# Altium footprint library hi3516dv100.PcbLib: 78 footprints (part 1 of 5)
Each footprint in its own frame and in the unit in brackets; x right, y up, seen from the top. Pads: shape width x height; smd on the part's side, far side on the other; paste and mask are expansions set on the pad; w line width, h text height; cw(c..) or ccw(c..) is an arc to the next point about the centre after c.
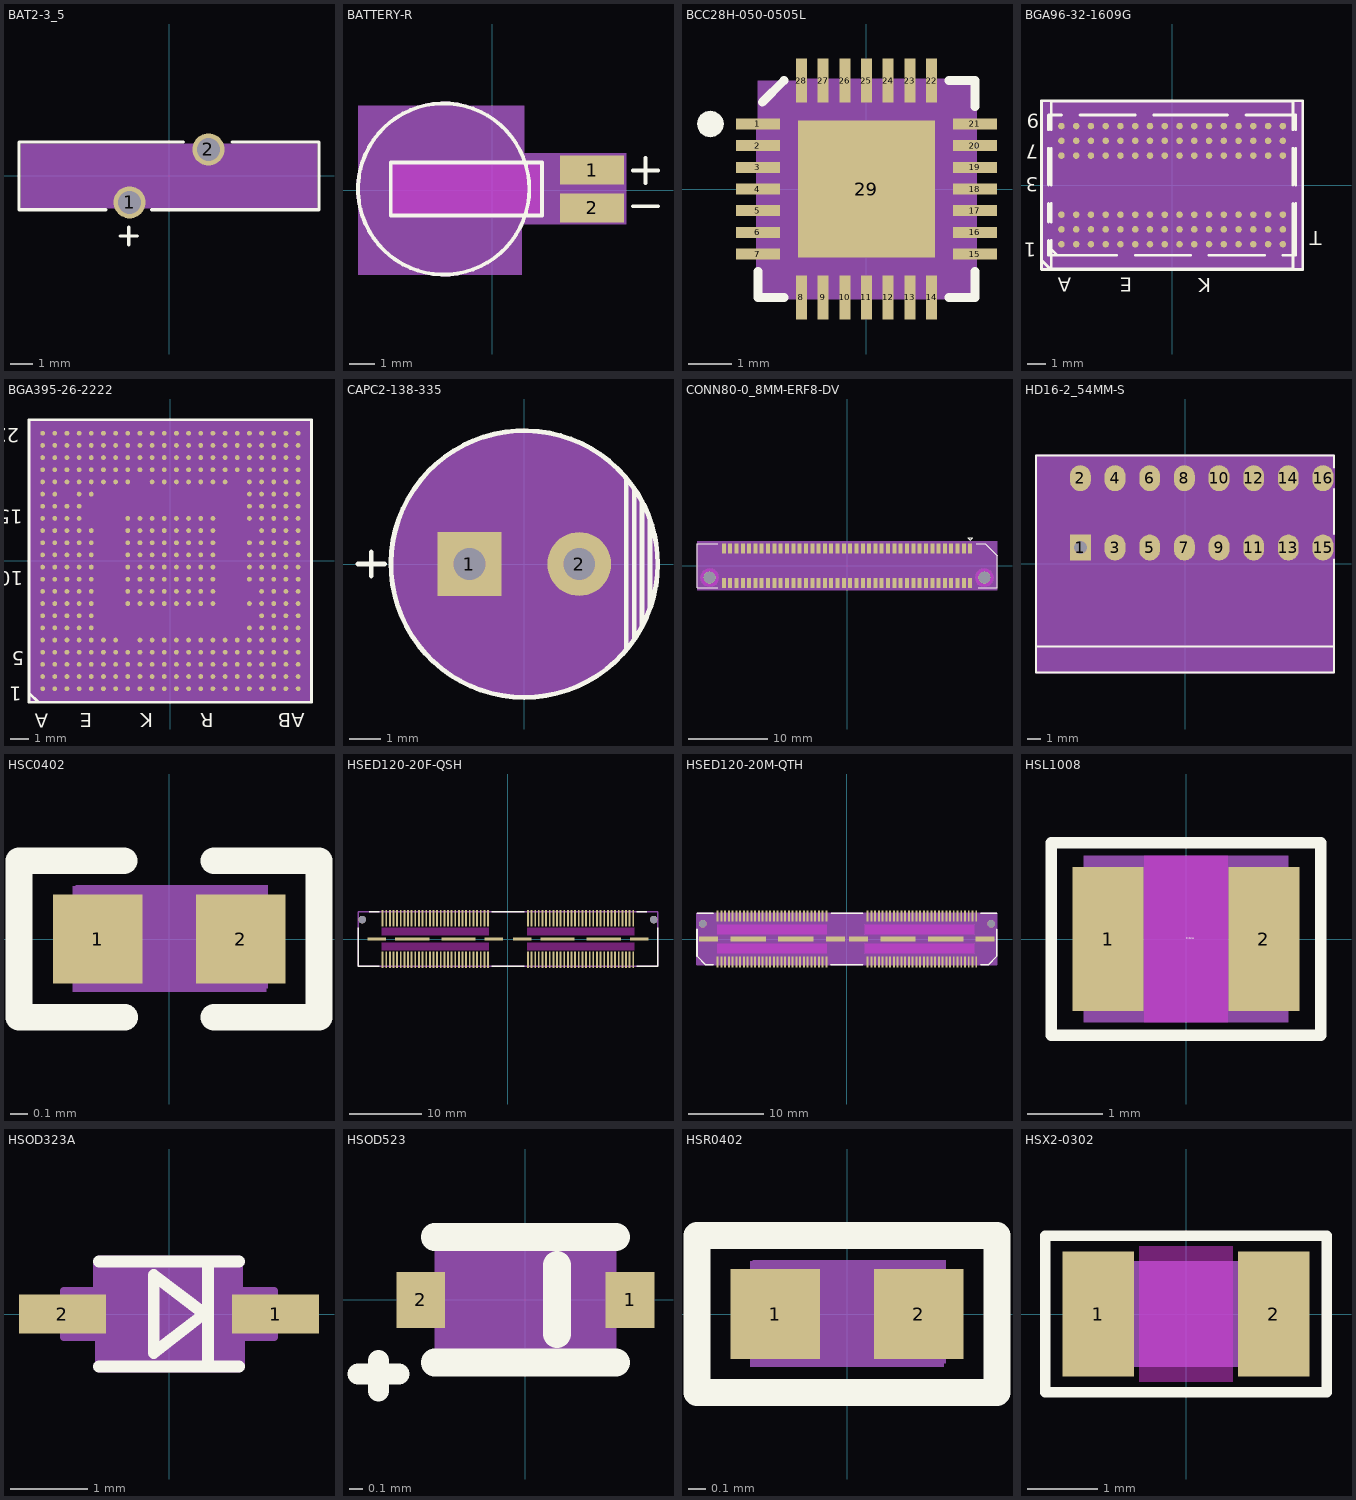
[diagram p0: the footprints below, top view; thin cyan lines are the x and y axes]

## BAT2-3_5 [mil] "BAT2-3_5"
pads (2):
  round 56 / inner round 60 / far side round 56 hole 40: 1(-68.9,-46.26) 2(68.9,46.26)
Top Overlay:
  lines w6: -110,-59.26 -262.02,-59.26 -262.02,59.26 25,59.26 ; -85,-105 -55,-105 ; -70,-120 -70,-90 ; -30,-59.26 262.02,-59.26 262.02,59.26 110,59.26
Mechanical 7:
  region: -259.02,-56.26 259.02,-56.26 259.02,56.26 -259.02,56.26
Mechanical 13:
  lines w1: -249.02,-46.26 -249.02,46.26 249.02,46.26 249.02,-46.26 -249.02,-46.26
3D body: height 150, standoff 0, extent -259.02,-56.26 259.02,56.26

## BATTERY-R [mil] "BATTERY-R"
pads (2):
  rect 100x45 smd: 1(156.5,31.5) 2(156.5,-27.56)
Top Layer keep-out:
  region: -158.46,-39.36 77.76,-39.36 77.76,43.31 -158.46,43.31
Top Overlay:
  circle w6: c-75.78,1.97 r133.85
  lines w6: 219.95,30.92 259.32,30.92 ; 220,-25 259.37,-25 ; 239.64,11.24 239.64,50.61 ; -158.46,-39.36 -158.46,43.31 77.76,43.31 77.76,-39.36 -158.46,-39.36
Mechanical 7:
  region: -209.64,131.89 50.2,131.89 50.2,58.01 209.65,58.01 209.65,47.31 209.65,45.28 209.65,-53.03 46.26,-53.03 46.26,-62.91 46.26,-63.38 46.26,-65.74 46.26,-131.89 -209.64,-131.89
Mechanical 16:
  circle w6: c-75.78,1.97 r133.85
  lines w6: -158.46,-39.36 -158.46,43.31 77.76,43.31 77.76,-39.36 -158.46,-39.36
3D body: height 150, standoff 0, extent -209.64,-131.89 209.65,131.89

## BCC28H-050-0505L [mil] "BCC28H-050-0505L"
pads (29):
  rect 40x10 smd: 1(-98.43,59.06) 2(-98.43,39.37) 3(-98.43,19.69) 4(-98.43,0) 5(-98.43,-19.69) 6(-98.43,-39.37) 7(-98.43,-59.06) 15(98.43,-59.06) 16(98.43,-39.37) 17(98.43,-19.69) 18(98.43,0) 19(98.43,19.69) 20(98.43,39.37) 21(98.43,59.06)
  rect 10x40 smd: 8(-59.06,-98.43) 9(-39.37,-98.43) 10(-19.69,-98.43) 11(0,-98.43) 12(19.69,-98.43) 13(39.37,-98.43) 14(59.06,-98.43) 22(59.06,98.43) 23(39.37,98.43) 24(19.69,98.43) 25(0,98.43) 26(-19.69,98.43) 27(-39.37,98.43) 28(-59.06,98.43)
  rect 124x124 smd: 29(0,0)
Top Overlay:
  dashed: -129.69,59.06 -130.61,63.67 -133.22,67.57 -137.12,70.18 -141.73,71.1 -146.34,70.18 -147.65,69.31 -150.24,67.57 -152.85,63.67 -153.77,59.06 -152.85,54.45 -150.24,50.55 -147.65,48.81 -146.34,47.94 -141.73,47.02 -137.12,47.94 -133.22,50.55 -130.61,54.45
  lines w7.87: -98.43,-74.8 -98.43,-98.43 -74.8,-98.43 ; -94.49,78.74 -74.8,98.43 ; 74.8,-98.43 98.43,-98.43 98.43,-74.8 ; 74.8,98.43 98.43,98.43 98.43,74.8
Mechanical 7:
  region: -98.43,98.43 -98.43,-98.43 98.43,-98.43 98.43,98.43
Mechanical 12:
  text "29" at -16,-50 h10
Mechanical 13:
  lines w3.94: -98.43,-98.43 -98.43,59.06 -59.06,98.43 98.43,98.43 98.43,-98.43 -98.43,-98.43
3D body: height 150, standoff 0, extent -98.43,-98.43 98.43,98.43

## BGA96-32-1609G [mil] "BGA96-32-1609G"
pads (96):
  round 14 smd: A1(-236.22,-125.98) A2(-236.22,-94.49) A3(-236.22,-62.99) A7(-236.22,62.99) A8(-236.22,94.49) A9(-236.22,125.98) B1(-204.72,-125.98) B2(-204.72,-94.49) B3(-204.72,-62.99) B7(-204.72,62.99) B8(-204.72,94.49) B9(-204.72,125.98) C1(-173.23,-125.98) C2(-173.23,-94.49) C3(-173.23,-62.99) C7(-173.23,62.99) C8(-173.23,94.49) C9(-173.23,125.98) D1(-141.73,-125.98) D2(-141.73,-94.49) D3(-141.73,-62.99) D7(-141.73,62.99) D8(-141.73,94.49) D9(-141.73,125.98) E1(-110.24,-125.98) E2(-110.24,-94.49) E3(-110.24,-62.99) E7(-110.24,62.99) E8(-110.24,94.49) E9(-110.24,125.98) F1(-78.74,-125.98) F2(-78.74,-94.49) F3(-78.74,-62.99) F7(-78.74,62.99) F8(-78.74,94.49) F9(-78.74,125.98) G1(-47.24,-125.98) G2(-47.24,-94.49) G3(-47.24,-62.99) G7(-47.24,62.99) G8(-47.24,94.49) G9(-47.24,125.98) H1(-15.75,-125.98) H2(-15.75,-94.49) H3(-15.75,-62.99) H7(-15.75,62.99) H8(-15.75,94.49) H9(-15.75,125.98) J1(15.75,-125.98) J2(15.75,-94.49) J3(15.75,-62.99) J7(15.75,62.99) J8(15.75,94.49) J9(15.75,125.98) K1(47.24,-125.98) K2(47.24,-94.49) K3(47.24,-62.99) K7(47.24,62.99) K8(47.24,94.49) K9(47.24,125.98) L1(78.74,-125.98) L2(78.74,-94.49) L3(78.74,-62.99) L7(78.74,62.99) L8(78.74,94.49) L9(78.74,125.98) M1(110.24,-125.98) M2(110.24,-94.49) M3(110.24,-62.99) M7(110.24,62.99) M8(110.24,94.49) M9(110.24,125.98) N1(141.73,-125.98) N2(141.73,-94.49) N3(141.73,-62.99) N7(141.73,62.99) N8(141.73,94.49) N9(141.73,125.98) P1(173.23,-125.98) P2(173.23,-94.49) P3(173.23,-62.99) P7(173.23,62.99) P8(173.23,94.49) P9(173.23,125.98) R1(204.72,-125.98) R2(204.72,-94.49) R3(204.72,-62.99) R7(204.72,62.99) R8(204.72,94.49) R9(204.72,125.98) T1(236.22,-125.98) T2(236.22,-94.49) T3(236.22,-62.99) T7(236.22,62.99) T8(236.22,94.49) T9(236.22,125.98)
Top Overlay:
  lines w6: -278.54,-160.43 -258.86,-180.12 ; -263.78,-118.11 -263.78,-149.61 -118.11,-149.61 ; -263.78,-78.74 -263.78,-39.37 ; -263.78,0 -263.78,78.74 ; -263.78,118.11 -263.78,149.61 -236.22,149.61 ; -263.27,-132.07 -246.94,-148.4 ; -257.87,-118.11 -257.87,-179.13 257.87,-179.13 257.87,-39.37 ; -257.87,-78.74 -257.87,-39.37 ; -257.87,0 -257.87,78.74 ; -257.87,118.11 -257.87,179.13 257.87,179.13 257.87,118.11 ; -196.85,149.61 -78.74,149.61 ; -78.74,-149.61 39.37,-149.61 ; -39.37,149.61 118.11,149.61 ; 78.74,-149.61 196.85,-149.61 ; 157.48,149.61 263.78,149.61 263.78,118.11 ; 236.22,-149.61 263.78,-149.61 263.78,-39.37 ; 257.87,0 257.87,78.74 ; 263.78,0 263.78,78.74 ; -278.54,-180.12 278.54,-180.12 278.54,180.12 -278.54,180.12 -278.54,-180.12
  text "9" at -283.52,152.4 h30
  text "7" at -285.84,85.72 h30
  text "3" at -285.42,17 h30
  text "1" at -290.42,-123 h30
  text "T" at 319.58,-98 h30
  text "K" at 83.58,-199 h30
  text "E" at -85.42,-198 h30
  text "A" at -215.42,-198 h30
Mechanical 8:
  region: 278.54,180.12 278.54,-180.12 -278.54,-180.12 -278.54,180.12
Mechanical 255:
  lines w3: -25,0 25,0 ; -25,0 25,0 ; -25,0 25,0 ; 0,-25 0,25 ; 0,-25 0,25 ; 0,-25 0,25
3D body: height 150, standoff 0, extent -278.54,-180.12 278.54,180.12

## BGA395-26-2222 [mil] "BGA395-26-2222"
pads (395):
  round 10 smd: A1(-268.7,-268.7) A2(-268.7,-243.11) A3(-268.7,-217.52) A4(-268.7,-191.93) A5(-268.7,-166.34) A6(-268.7,-140.75) A7(-268.7,-115.16) A8(-268.7,-89.57) A9(-268.7,-63.98) A10(-268.7,-38.39) A11(-268.7,-12.8) A12(-268.7,12.8) A13(-268.7,38.39) A14(-268.7,63.98) A15(-268.7,89.57) A16(-268.7,115.16) A17(-268.7,140.75) A18(-268.7,166.34) A19(-268.7,191.93) A20(-268.7,217.52) A21(-268.7,243.11) A22(-268.7,268.7) AA1(243.11,-268.7) AA2(243.11,-243.11) AA3(243.11,-217.52) AA4(243.11,-191.93) AA5(243.11,-166.34) AA6(243.11,-140.75) AA7(243.11,-115.16) AA8(243.11,-89.57) AA9(243.11,-63.98) AA10(243.11,-38.39) AA11(243.11,-12.8) AA12(243.11,12.8) AA13(243.11,38.39) AA14(243.11,63.98) AA15(243.11,89.57) AA16(243.11,115.16) AA17(243.11,140.75) AA18(243.11,166.34) AA19(243.11,191.93) AA20(243.11,217.52) AA21(243.11,243.11) AA22(243.11,268.7) AB1(268.7,-268.7) AB2(268.7,-243.11) AB3(268.7,-217.52) AB4(268.7,-191.93) AB5(268.7,-166.34) AB6(268.7,-140.75) AB7(268.7,-115.16) AB8(268.7,-89.57) AB9(268.7,-63.98) AB10(268.7,-38.39) AB11(268.7,-12.8) AB12(268.7,12.8) AB13(268.7,38.39) AB14(268.7,63.98) AB15(268.7,89.57) AB16(268.7,115.16) AB17(268.7,140.75) AB18(268.7,166.34) AB19(268.7,191.93) AB20(268.7,217.52) AB21(268.7,243.11) AB22(268.7,268.7) B1(-243.11,-268.7) B2(-243.11,-243.11) B3(-243.11,-217.52) B4(-243.11,-191.93) B5(-243.11,-166.34) B6(-243.11,-140.75) B7(-243.11,-115.16) B8(-243.11,-89.57) B9(-243.11,-63.98) B10(-243.11,-38.39) B11(-243.11,-12.8) B12(-243.11,12.8) B13(-243.11,38.39) B14(-243.11,63.98) B15(-243.11,89.57) B16(-243.11,115.16) B17(-243.11,140.75) B18(-243.11,166.34) B19(-243.11,191.93) B20(-243.11,217.52) B21(-243.11,243.11) B22(-243.11,268.7) C1(-217.52,-268.7) C2(-217.52,-243.11) C3(-217.52,-217.52) C4(-217.52,-191.93) C5(-217.52,-166.34) C6(-217.52,-140.75) C7(-217.52,-115.16) C8(-217.52,-89.57) C9(-217.52,-63.98) C10(-217.52,-38.39) C11(-217.52,-12.8) C12(-217.52,12.8) C13(-217.52,38.39) C14(-217.52,63.98) C15(-217.52,89.57) C16(-217.52,115.16) C18(-217.52,166.34) C19(-217.52,191.93) C20(-217.52,217.52) C21(-217.52,243.11) C22(-217.52,268.7) D1(-191.93,-268.7) D2(-191.93,-243.11) D3(-191.93,-217.52) D4(-191.93,-191.93) D5(-191.93,-166.34) D6(-191.93,-140.75) D7(-191.93,-115.16) D8(-191.93,-89.57) D9(-191.93,-63.98) D10(-191.93,-38.39) D11(-191.93,-12.8) D12(-191.93,12.8) D13(-191.93,38.39) D14(-191.93,63.98) D15(-191.93,89.57) D16(-191.93,115.16) D17(-191.93,140.75) D18(-191.93,166.34) D19(-191.93,191.93) D20(-191.93,217.52) D21(-191.93,243.11) D22(-191.93,268.7) E1(-166.34,-268.7) E2(-166.34,-243.11) E3(-166.34,-217.52) E4(-166.34,-191.93) E5(-166.34,-166.34) E6(-166.34,-140.75) E7(-166.34,-115.16) E8(-166.34,-89.57) E9(-166.34,-63.98) E10(-166.34,-38.39) E11(-166.34,-12.8) E12(-166.34,12.8) E13(-166.34,38.39) E14(-166.34,63.98) E17(-166.34,140.75) E18(-166.34,166.34) E19(-166.34,191.93) E20(-166.34,217.52) E21(-166.34,243.11) E22(-166.34,268.7) F1(-140.75,-268.7) F2(-140.75,-243.11) F3(-140.75,-217.52) F4(-140.75,-191.93) F5(-140.75,-166.34) F18(-140.75,166.34) F19(-140.75,191.93) F20(-140.75,217.52) F21(-140.75,243.11) F22(-140.75,268.7) G1(-115.16,-268.7) G2(-115.16,-243.11) G3(-115.16,-217.52) G4(-115.16,-191.93) G5(-115.16,-166.34) G18(-115.16,166.34) G19(-115.16,191.93) G20(-115.16,217.52) G21(-115.16,243.11) G22(-115.16,268.7) H1(-89.57,-268.7) H2(-89.57,-243.11) H3(-89.57,-217.52) H4(-89.57,-191.93) H8(-89.57,-89.57) H9(-89.57,-63.98) H10(-89.57,-38.39) H11(-89.57,-12.8) H12(-89.57,12.8) H13(-89.57,38.39) H14(-89.57,63.98) H15(-89.57,89.57) H18(-89.57,166.34) H19(-89.57,191.93) H20(-89.57,217.52) H21(-89.57,243.11) H22(-89.57,268.7) J1(-63.98,-268.7) J2(-63.98,-243.11) J3(-63.98,-217.52) J4(-63.98,-191.93) J5(-63.98,-166.34) J8(-63.98,-89.57) J9(-63.98,-63.98) J10(-63.98,-38.39) J11(-63.98,-12.8) J12(-63.98,12.8) J13(-63.98,38.39) J14(-63.98,63.98) J15(-63.98,89.57) J19(-63.98,191.93) J20(-63.98,217.52) J21(-63.98,243.11) J22(-63.98,268.7) K1(-38.39,-268.7) K2(-38.39,-243.11) K3(-38.39,-217.52) K4(-38.39,-191.93) K5(-38.39,-166.34) K8(-38.39,-89.57) K9(-38.39,-63.98) K10(-38.39,-38.39) K11(-38.39,-12.8) K12(-38.39,12.8) K13(-38.39,38.39) K14(-38.39,63.98) K15(-38.39,89.57) K18(-38.39,166.34) K19(-38.39,191.93) K20(-38.39,217.52) K21(-38.39,243.11) K22(-38.39,268.7) L1(-12.8,-268.7) L2(-12.8,-243.11) L3(-12.8,-217.52) L4(-12.8,-191.93) L5(-12.8,-166.34) L8(-12.8,-89.57) L9(-12.8,-63.98) L10(-12.8,-38.39) L11(-12.8,-12.8) L12(-12.8,12.8) L13(-12.8,38.39) L14(-12.8,63.98) L15(-12.8,89.57) L18(-12.8,166.34) L19(-12.8,191.93) L20(-12.8,217.52) L21(-12.8,243.11) L22(-12.8,268.7) M1(12.8,-268.7) M2(12.8,-243.11) M3(12.8,-217.52) M4(12.8,-191.93) M5(12.8,-166.34) M8(12.8,-89.57) M9(12.8,-63.98) M10(12.8,-38.39) M11(12.8,-12.8) M12(12.8,12.8) M13(12.8,38.39) M14(12.8,63.98) M15(12.8,89.57) M18(12.8,166.34) M19(12.8,191.93) M20(12.8,217.52) M21(12.8,243.11) M22(12.8,268.7) N1(38.39,-268.7) N2(38.39,-243.11) N3(38.39,-217.52) N4(38.39,-191.93) N5(38.39,-166.34) N8(38.39,-89.57) N9(38.39,-63.98) N10(38.39,-38.39) N11(38.39,-12.8) N12(38.39,12.8) N13(38.39,38.39) N14(38.39,63.98) N15(38.39,89.57) N18(38.39,166.34) N19(38.39,191.93) N20(38.39,217.52) N21(38.39,243.11) N22(38.39,268.7) P1(63.98,-268.7) P2(63.98,-243.11) P3(63.98,-217.52) P4(63.98,-191.93) P5(63.98,-166.34) P8(63.98,-89.57) P9(63.98,-63.98) P10(63.98,-38.39) P11(63.98,-12.8) P12(63.98,12.8) P13(63.98,38.39) P14(63.98,63.98) P15(63.98,89.57) P18(63.98,166.34) P19(63.98,191.93) P20(63.98,217.52) P21(63.98,243.11) P22(63.98,268.7) R1(89.57,-268.7) R2(89.57,-243.11) R3(89.57,-217.52) R4(89.57,-191.93) R5(89.57,-166.34) R8(89.57,-89.57) R9(89.57,-63.98) R10(89.57,-38.39) R11(89.57,-12.8) R12(89.57,12.8) R13(89.57,38.39) R14(89.57,63.98) R15(89.57,89.57) R18(89.57,166.34) R19(89.57,191.93) R20(89.57,217.52) R21(89.57,243.11) R22(89.57,268.7) T1(115.16,-268.7) T2(115.16,-243.11) T3(115.16,-217.52) T4(115.16,-191.93) T5(115.16,-166.34) T18(115.16,166.34) T19(115.16,191.93) T20(115.16,217.52) T21(115.16,243.11) T22(115.16,268.7) U1(140.75,-268.7) U2(140.75,-243.11) U3(140.75,-217.52) U4(140.75,-191.93) U5(140.75,-166.34) U19(140.75,191.93) U20(140.75,217.52) U21(140.75,243.11) U22(140.75,268.7) V1(166.34,-268.7) V2(166.34,-243.11) V3(166.34,-217.52) V4(166.34,-191.93) V5(166.34,-166.34) V6(166.34,-140.75) V8(166.34,-89.57) V10(166.34,-38.39) V11(166.34,-12.8) V12(166.34,12.8) V13(166.34,38.39) V15(166.34,89.57) V16(166.34,115.16) V17(166.34,140.75) V18(166.34,166.34) V19(166.34,191.93) V20(166.34,217.52) V21(166.34,243.11) V22(166.34,268.7) W1(191.93,-268.7) W2(191.93,-243.11) W3(191.93,-217.52) W4(191.93,-191.93) W5(191.93,-166.34) W6(191.93,-140.75) W7(191.93,-115.16) W8(191.93,-89.57) W9(191.93,-63.98) W10(191.93,-38.39) W11(191.93,-12.8) W12(191.93,12.8) W13(191.93,38.39) W14(191.93,63.98) W15(191.93,89.57) W16(191.93,115.16) W17(191.93,140.75) W18(191.93,166.34) W19(191.93,191.93) W20(191.93,217.52) W21(191.93,243.11) W22(191.93,268.7) Y1(217.52,-268.7) Y2(217.52,-243.11) Y3(217.52,-217.52) Y4(217.52,-191.93) Y5(217.52,-166.34) Y6(217.52,-140.75) Y7(217.52,-115.16) Y8(217.52,-89.57) Y9(217.52,-63.98) Y10(217.52,-38.39) Y11(217.52,-12.8) Y12(217.52,12.8) Y13(217.52,38.39) Y14(217.52,63.98) Y15(217.52,89.57) Y16(217.52,115.16) Y17(217.52,140.75) Y18(217.52,166.34) Y19(217.52,191.93) Y20(217.52,217.52) Y21(217.52,243.11) Y22(217.52,268.7)
Top Overlay:
  lines w6: -297.24,-277.56 -277.56,-297.24 ; -297.24,-297.24 -297.24,297.24 297.24,297.24 297.24,-297.24 -297.24,-297.24
  text "22" at -318.42,279.13 h30
  text "15" at -310.42,108.13 h30
  text "10" at -309.42,-21.87 h30
  text "5" at -307.42,-189.87 h30
  text "1" at -312.42,-264.87 h30
  text "AB" at 282.7,-320.24 h30
  text "R" at 91.57,-320.24 h30
  text "K" at -36.39,-320.24 h30
  text "E" at -164.34,-320.24 h30
  text "A" at -256.42,-321.87 h30
Mechanical 7:
  region: -297.24,-297.24 297.24,-297.24 297.24,297.24 -297.24,297.24
Mechanical 14:
  text "L5" at -12.79,-166.34 h0.01
  text "M5" at 12.81,-166.34 h0.01
  text "V8" at 166.35,-89.57 h0.01
  text "F18" at -140.74,166.34 h0.01
  text "G18" at -115.15,166.34 h0.01
  text "V17" at 166.35,140.75 h0.01
  text "V16" at 166.35,115.16 h0.01
  text "R19" at 89.58,191.93 h0.01
  text "R20" at 89.58,217.52 h0.01
  text "R21" at 89.58,243.11 h0.01
  text "U5" at 140.76,-166.34 h0.01
  text "D20" at -191.92,217.52 h0.01
  text "Y15" at 217.53,89.57 h0.01
  text "K5" at -38.38,-166.34 h0.01
  text "N5" at 38.4,-166.34 h0.01
  text "P5" at 63.99,-166.34 h0.01
  text "T5" at 115.17,-166.34 h0.01
  text "J13" at -63.97,38.39 h0.01
  text "K13" at -38.38,38.39 h0.01
  text "H12" at -89.56,12.8 h0.01
  text "J12" at -63.97,12.8 h0.01
  text "K12" at -38.38,12.8 h0.01
  text "J11" at -63.97,-12.8 h0.01
  text "K11" at -38.38,-12.8 h0.01
  text "J10" at -63.97,-38.39 h0.01
  text "K10" at -38.38,-38.39 h0.01
  text "H9" at -89.56,-63.98 h0.01
  text "J9" at -63.97,-63.98 h0.01
  text "K9" at -38.38,-63.98 h0.01
  text "K8" at -38.38,-89.57 h0.01
  text "L13" at -12.79,38.39 h0.01
  text "M13" at 12.81,38.39 h0.01
  text "N13" at 38.4,38.39 h0.01
  text "P13" at 63.99,38.39 h0.01
  text "L12" at -12.79,12.8 h0.01
  text "M12" at 12.81,12.8 h0.01
  text "N12" at 38.4,12.8 h0.01
  text "P12" at 63.99,12.8 h0.01
  text "R12" at 89.58,12.8 h0.01
  text "L11" at -12.79,-12.8 h0.01
  text "M11" at 12.81,-12.8 h0.01
  text "N11" at 38.4,-12.8 h0.01
  text "P11" at 63.99,-12.8 h0.01
  text "L10" at -12.79,-38.39 h0.01
  text "M10" at 12.81,-38.39 h0.01
  text "N10" at 38.4,-38.39 h0.01
  text "P10" at 63.99,-38.39 h0.01
  text "L9" at -12.79,-63.98 h0.01
  text "M9" at 12.81,-63.98 h0.01
  text "N9" at 38.4,-63.98 h0.01
  text "P9" at 63.99,-63.98 h0.01
  text "V13" at 166.35,38.39 h0.01
  text "Y11" at 217.53,-12.8 h0.01
  text "V10" at 166.35,-38.39 h0.01
  text "E18" at -166.33,166.34 h0.01
  text "H18" at -89.56,166.34 h0.01
  text "E14" at -166.33,63.98 h0.01
  text "J14" at -63.97,63.98 h0.01
  text "K14" at -38.38,63.98 h0.01
  text "R18" at 89.58,166.34 h0.01
  text "L15" at -12.79,89.57 h0.01
  text "L14" at -12.79,63.98 h0.01
  text "M14" at 12.81,63.98 h0.01
  text "N14" at 38.4,63.98 h0.01
  text "P14" at 63.99,63.98 h0.01
  text "AB22" at 268.72,268.7 h0.01
  text "W3" at 191.94,-217.52 h0.01
  text "B9" at -243.1,-63.98 h0.01
  text "F1" at -140.74,-268.7 h0.01
  text "A1" at -268.69,-268.7 h0.01
  text "R1" at 89.58,-268.7 h0.01
  text "E7" at -166.33,-115.16 h0.01
  text "V5" at 166.35,-166.34 h0.01
  text "AA8" at 243.12,-89.57 h0.01
  text "Y8" at 217.53,-89.57 h0.01
  text "AA15" at 243.13,89.57 h0.01
  text "AB15" at 268.72,89.57 h0.01
  text "B20" at -243.1,217.52 h0.01
  text "P20" at 63.99,217.52 h0.01
  text "P19" at 63.99,191.93 h0.01
  text "V18" at 166.35,166.34 h0.01
  text "W17" at 191.94,140.75 h0.01
  text "U19" at 140.76,191.93 h0.01
  text "AA18" at 243.13,166.34 h0.01
  text "A22" at -268.69,268.7 h0.01
  text "H22" at -89.56,268.7 h0.01
  text "AA6" at 243.12,-140.75 h0.01
  text "B11" at -243.1,-12.8 h0.01
  text "A11" at -268.69,-12.8 h0.01
  text "B14" at -243.1,63.98 h0.01
  text "A14" at -268.69,63.98 h0.01
  text "B17" at -243.1,140.75 h0.01
  text "AB1" at 268.71,-268.7 h0.01
  text "E5" at -166.33,-166.34 h0.01
  text "V2" at 166.35,-243.11 h0.01
  text "F2" at -140.74,-243.11 h0.01
  text "A9" at -268.69,-63.98 h0.01
  text "D17" at -191.92,140.75 h0.01
  text "W11" at 191.94,-12.8 h0.01
  text "V1" at 166.35,-268.7 h0.01
  text "N22" at 38.4,268.7 h0.01
  text "N21" at 38.4,243.11 h0.01
  text "T22" at 115.17,268.7 h0.01
  text "T21" at 115.17,243.11 h0.01
  text "V15" at 166.35,89.57 h0.01
  text "W14" at 191.94,63.98 h0.01
  text "Y14" at 217.53,63.98 h0.01
  text "W7" at 191.94,-115.16 h0.01
  text "AB7" at 268.71,-115.16 h0.01
  text "AB6" at 268.71,-140.75 h0.01
  text "AA5" at 243.12,-166.34 h0.01
  text "AB5" at 268.71,-166.34 h0.01
  text "D18" at -191.92,166.34 h0.01
  text "N20" at 38.4,217.52 h0.01
  text "M22" at 12.81,268.7 h0.01
  text "M18" at 12.81,166.34 h0.01
  text "J21" at -63.97,243.11 h0.01
  text "J19" at -63.97,191.93 h0.01
  text "K18" at -38.38,166.34 h0.01
  text "P3" at 63.99,-217.52 h0.01
  text "R2" at 89.58,-243.11 h0.01
  text "R4" at 89.58,-191.93 h0.01
  text "P2" at 63.99,-243.11 h0.01
  text "W15" at 191.94,89.57 h0.01
  text "AA2" at 243.12,-243.11 h0.01
  text "Y20" at 217.53,217.52 h0.01
  text "W21" at 191.94,243.11 h0.01
  text "Y21" at 217.53,243.11 h0.01
  text "Y19" at 217.53,191.93 h0.01
  text "Y22" at 217.53,268.7 h0.01
  text "W22" at 191.94,268.7 h0.01
  text "U21" at 140.76,243.11 h0.01
  text "U22" at 140.76,268.7 h0.01
  text "V21" at 166.35,243.11 h0.01
  text "AA14" at 243.13,63.98 h0.01
  text "T2" at 115.17,-243.11 h0.01
  text "AA19" at 243.13,191.93 h0.01
  text "U1" at 140.76,-268.7 h0.01
  text "U2" at 140.76,-243.11 h0.01
  text "W2" at 191.94,-243.11 h0.01
  text "W1" at 191.94,-268.7 h0.01
  text "E19" at -166.33,191.93 h0.01
  text "B22" at -243.1,268.7 h0.01
  text "P1" at 63.99,-268.7 h0.01
  text "C19" at -217.51,191.93 h0.01
  text "D19" at -191.92,191.93 h0.01
  text "C20" at -217.51,217.52 h0.01
  text "C21" at -217.51,243.11 h0.01
  text "B21" at -243.1,243.11 h0.01
  text "AA1" at 243.12,-268.7 h0.01
  text "G22" at -115.15,268.7 h0.01
  text "R8" at 89.58,-89.57 h0.01
  text "P8" at 63.99,-89.57 h0.01
  text "R9" at 89.58,-63.98 h0.01
  text "H8" at -89.56,-89.57 h0.01
  text "J8" at -63.97,-89.57 h0.01
  text "H10" at -89.56,-38.39 h0.01
  text "H11" at -89.56,-12.8 h0.01
  text "J15" at -63.97,89.57 h0.01
  text "H15" at -89.56,89.57 h0.01
  text "M15" at 12.81,89.57 h0.01
  text "N15" at 38.4,89.57 h0.01
  text "R13" at 89.58,38.39 h0.01
  text "R14" at 89.58,63.98 h0.01
  text "H14" at -89.56,63.98 h0.01
  text "R10" at 89.58,-38.39 h0.01
  text "R11" at 89.58,-12.8 h0.01
  text "N8" at 38.4,-89.57 h0.01
  text "L8" at -12.79,-89.57 h0.01
  text "M8" at 12.81,-89.57 h0.01
  text "H13" at -89.56,38.39 h0.01
  text "K15" at -38.38,89.57 h0.01
  text "R15" at 89.58,89.57 h0.01
  text "P15" at 63.99,89.57 h0.01
  text "F5" at -140.74,-166.34 h0.01
  text "E6" at -166.33,-140.75 h0.01
  text "G5" at -115.15,-166.34 h0.01
  text "E10" at -166.33,-38.39 h0.01
  text "E9" at -166.33,-63.98 h0.01
  text "E13" at -166.33,38.39 h0.01
  text "E12" at -166.33,12.8 h0.01
  text "E17" at -166.33,140.75 h0.01
  text "R22" at 89.58,268.7 h0.01
  text "R5" at 89.58,-166.34 h0.01
  text "N18" at 38.4,166.34 h0.01
  text "U4" at 140.76,-191.93 h0.01
  text "T18" at 115.17,166.34 h0.01
  text "P18" at 63.99,166.34 h0.01
  text "U3" at 140.76,-217.52 h0.01
  text "J5" at -63.97,-166.34 h0.01
  text "E8" at -166.33,-89.57 h0.01
  text "E11" at -166.33,-12.8 h0.01
  text "AB20" at 268.72,217.52 h0.01
  text "A7" at -268.69,-115.16 h0.01
  text "C5" at -217.51,-166.34 h0.01
  text "B5" at -243.1,-166.34 h0.01
  text "B4" at -243.1,-191.93 h0.01
  text "C9" at -217.51,-63.98 h0.01
  text "A4" at -268.69,-191.93 h0.01
  text "C3" at -217.51,-217.52 h0.01
  text "A5" at -268.69,-166.34 h0.01
  text "D4" at -191.92,-191.93 h0.01
  text "A6" at -268.69,-140.75 h0.01
  text "C6" at -217.51,-140.75 h0.01
  text "D6" at -191.92,-140.75 h0.01
  text "C7" at -217.51,-115.16 h0.01
  text "B7" at -243.1,-115.16 h0.01
  text "D5" at -191.92,-166.34 h0.01
  text "A3" at -268.69,-217.52 h0.01
  text "D9" at -191.92,-63.98 h0.01
  text "D8" at -191.92,-89.57 h0.01
  text "A2" at -268.69,-243.11 h0.01
  text "D7" at -191.92,-115.16 h0.01
  text "A10" at -268.69,-38.39 h0.01
  text "B10" at -243.1,-38.39 h0.01
  text "B8" at -243.1,-89.57 h0.01
  text "A8" at -268.69,-89.57 h0.01
  text "C8" at -217.51,-89.57 h0.01
  text "B1" at -243.1,-268.7 h0.01
  text "B12" at -243.1,12.8 h0.01
  text "D13" at -191.92,38.39 h0.01
  text "H3" at -89.56,-217.52 h0.01
  text "F4" at -140.74,-191.93 h0.01
  text "A16" at -268.69,115.16 h0.01
  text "D12" at -191.92,12.8 h0.01
  text "C13" at -217.51,38.39 h0.01
  text "C11" at -217.51,-12.8 h0.01
  text "C14" at -217.51,63.98 h0.01
  text "C10" at -217.51,-38.39 h0.01
  text "A17" at -268.69,140.75 h0.01
  text "D11" at -191.92,-12.8 h0.01
  text "C12" at -217.51,12.8 h0.01
  text "C15" at -217.51,89.57 h0.01
  text "A12" at -268.69,12.8 h0.01
  text "D15" at -191.92,89.57 h0.01
  text "B16" at -243.1,115.16 h0.01
  text "C16" at -217.51,115.16 h0.01
  text "D14" at -191.92,63.98 h0.01
  text "D16" at -191.92,115.16 h0.01
  text "G3" at -115.15,-217.52 h0.01
  text "D3" at -191.92,-217.52 h0.01
  text "F3" at -140.74,-217.52 h0.01
  text "E4" at -166.33,-191.93 h0.01
  text "C2" at -217.51,-243.11 h0.01
  text "E3" at -166.33,-217.52 h0.01
  text "C1" at -217.51,-268.7 h0.01
  text "D2" at -191.92,-243.11 h0.01
  text "J3" at -63.97,-217.52 h0.01
  text "D1" at -191.92,-268.7 h0.01
  text "J1" at -63.97,-268.7 h0.01
  text "H4" at -89.56,-191.93 h0.01
  text "H2" at -89.56,-243.11 h0.01
  text "J4" at -63.97,-191.93 h0.01
  text "H1" at -89.56,-268.7 h0.01
  text "G4" at -115.15,-191.93 h0.01
  text "A15" at -268.69,89.57 h0.01
  text "B15" at -243.1,89.57 h0.01
  text "A13" at -268.69,38.39 h0.01
  text "B13" at -243.1,38.39 h0.01
  text "E2" at -166.33,-243.11 h0.01
  text "E1" at -166.33,-268.7 h0.01
  text "G1" at -115.15,-268.7 h0.01
  text "G2" at -115.15,-243.11 h0.01
  text "D10" at -191.92,-38.39 h0.01
  text "B2" at -243.1,-243.11 h0.01
  text "B3" at -243.1,-217.52 h0.01
  text "B6" at -243.1,-140.75 h0.01
  text "C4" at -217.51,-191.93 h0.01
  text "J2" at -63.97,-243.11 h0.01
  text "V6" at 166.35,-140.75 h0.01
  text "V11" at 166.35,-12.8 h0.01
  text "V12" at 166.35,12.8 h0.01
  text "AB18" at 268.72,166.34 h0.01
  text "AB8" at 268.71,-89.57 h0.01
  text "W20" at 191.94,217.52 h0.01
  text "AA17" at 243.13,140.75 h0.01
  text "AB21" at 268.72,243.11 h0.01
  text "AA20" at 243.13,217.52 h0.01
  text "Y6" at 217.53,-140.75 h0.01
  text "Y7" at 217.53,-115.16 h0.01
  text "Y5" at 217.53,-166.34 h0.01
  text "W5" at 191.94,-166.34 h0.01
  text "AA7" at 243.12,-115.16 h0.01
  text "W4" at 191.94,-191.93 h0.01
  text "AB16" at 268.72,115.16 h0.01
  text "Y18" at 217.53,166.34 h0.01
  text "W18" at 191.94,166.34 h0.01
  text "AB19" at 268.72,191.93 h0.01
  text "AB17" at 268.72,140.75 h0.01
  text "V22" at 166.35,268.7 h0.01
  text "N2" at 38.4,-243.11 h0.01
  text "M1" at 12.81,-268.7 h0.01
  text "L1" at -12.79,-268.7 h0.01
  text "N3" at 38.4,-217.52 h0.01
  text "L4" at -12.79,-191.93 h0.01
  text "K4" at -38.38,-191.93 h0.01
  text "K3" at -38.38,-217.52 h0.01
  text "L3" at -12.79,-217.52 h0.01
  text "M3" at 12.81,-217.52 h0.01
  text "M4" at 12.81,-191.93 h0.01
  text "N4" at 38.4,-191.93 h0.01
  text "K1" at -38.38,-268.7 h0.01
  text "K2" at -38.38,-243.11 h0.01
  text "L2" at -12.79,-243.11 h0.01
  text "N1" at 38.4,-268.7 h0.01
  text "T3" at 115.17,-217.52 h0.01
  text "A21" at -268.69,243.11 h0.01
  text "N19" at 38.4,191.93 h0.01
  text "L22" at -12.79,268.7 h0.01
  text "M20" at 12.81,217.52 h0.01
  text "M19" at 12.81,191.93 h0.01
  text "L21" at -12.79,243.11 h0.01
  text "L20" at -12.79,217.52 h0.01
  text "M21" at 12.81,243.11 h0.01
  text "J20" at -63.97,217.52 h0.01
  text "K22" at -38.38,268.7 h0.01
  text "K21" at -38.38,243.11 h0.01
  text "K20" at -38.38,217.52 h0.01
  text "J22" at -63.97,268.7 h0.01
  text "L19" at -12.79,191.93 h0.01
  text "K19" at -38.38,191.93 h0.01
  text "Y1" at 217.53,-268.7 h0.01
  text "R3" at 89.58,-217.52 h0.01
  text "Y3" at 217.53,-217.52 h0.01
  text "Y17" at 217.53,140.75 h0.01
  text "AA21" at 243.13,243.11 h0.01
  text "W19" at 191.94,191.93 h0.01
  text "AA22" at 243.13,268.7 h0.01
  text "V20" at 166.35,217.52 h0.01
  text "P4" at 63.99,-191.93 h0.01
  text "T1" at 115.17,-268.7 h0.01
  text "V19" at 166.35,191.93 h0.01
  text "U20" at 140.76,217.52 h0.01
  text "T20" at 115.17,217.52 h0.01
  text "T19" at 115.17,191.93 h0.01
  text "H21" at -89.56,243.11 h0.01
  text "G21" at -115.15,243.11 h0.01
  text "F22" at -140.74,268.7 h0.01
  text "G20" at -115.15,217.52 h0.01
  text "F21" at -140.74,243.11 h0.01
  text "F19" at -140.74,191.93 h0.01
  text "D22" at -191.92,268.7 h0.01
  text "D21" at -191.92,243.11 h0.01
  text "E20" at -166.33,217.52 h0.01
  text "C22" at -217.51,268.7 h0.01
  text "A18" at -268.69,166.34 h0.01
  text "C18" at -217.51,166.34 h0.01
  text "A19" at -268.69,191.93 h0.01
  text "A20" at -268.69,217.52 h0.01
  text "B18" at -243.1,166.34 h0.01
  text "P22" at 63.99,268.7 h0.01
  text "P21" at 63.99,243.11 h0.01
  text "AA3" at 243.12,-217.52 h0.01
  text "AB4" at 268.71,-191.93 h0.01
  text "W8" at 191.94,-89.57 h0.01
  text "Y4" at 217.53,-191.93 h0.01
  text "W16" at 191.94,115.16 h0.01
  text "AB3" at 268.71,-217.52 h0.01
  text "B19" at -243.1,191.93 h0.01
  text "AA4" at 243.12,-191.93 h0.01
  text "V4" at 166.35,-191.93 h0.01
  text "L18" at -12.79,166.34 h0.01
  text "V3" at 166.35,-217.52 h0.01
  text "W6" at 191.94,-140.75 h0.01
  text "Y10" at 217.53,-38.39 h0.01
  text "W10" at 191.94,-38.39 h0.01
  text "AB10" at 268.72,-38.39 h0.01
  text "AA10" at 243.13,-38.39 h0.01
  text "AB9" at 268.71,-63.98 h0.01
  text "AA9" at 243.12,-63.98 h0.01
  text "AB11" at 268.72,-12.8 h0.01
  text "AA11" at 243.13,-12.8 h0.01
  text "W9" at 191.94,-63.98 h0.01
  text "Y9" at 217.53,-63.98 h0.01
  text "W13" at 191.94,38.39 h0.01
  text "Y13" at 217.53,38.39 h0.01
  text "AA13" at 243.13,38.39 h0.01
  text "AB13" at 268.72,38.39 h0.01
  text "Y12" at 217.53,12.8 h0.01
  text "W12" at 191.94,12.8 h0.01
  text "AB14" at 268.72,63.98 h0.01
  text "AA12" at 243.13,12.8 h0.01
  text "AB12" at 268.72,12.8 h0.01
  text "M2" at 12.81,-243.11 h0.01
  text "AB2" at 268.71,-243.11 h0.01
  text "Y2" at 217.53,-243.11 h0.01
  text "AA16" at 243.13,115.16 h0.01
  text "Y16" at 217.53,115.16 h0.01
  text "H20" at -89.56,217.52 h0.01
  text "H19" at -89.56,191.93 h0.01
  text "G19" at -115.15,191.93 h0.01
  text "E22" at -166.33,268.7 h0.01
  text "F20" at -140.74,217.52 h0.01
  text "E21" at -166.33,243.11 h0.01
  text "T4" at 115.17,-191.93 h0.01
Mechanical 255:
  lines w3: -25,0 25,0 ; 0,-25 0,25
3D body: height 150, standoff 0, extent -297.24,-297.24 297.24,297.24

## CAPC2-138-335 [mil] "CAPC2-138-335"
pads (2):
  rect 80x80 / inner round 60 / far side rect 80x80 hole 40: 1(-68.9,0)
  round 80 hole 40: 2(68.9,0)
Top Overlay:
  lines w6: -208.66,0 -175.2,0 ; -192.13,-15.16 -192.13,15.16 ; 127.95,-106.3 127.95,106.3 ; 137.79,-94.49 137.79,94.49 ; 147.64,-78.74 147.64,78.74 ; 157.48,-55.12 157.48,55.12 ; 159.97,49 ccw(c-0.01,0) 0,-167.32 ccw(c0,0) 167.32,0 ccw(c0,-0.01) 159.98,49
Mechanical 7:
  region: 0,167.68 -21.89,166.24 -43.4,161.97 -64.17,154.92 -83.84,145.21 -102.08,133.03 -118.57,118.57 -133.03,102.08 -145.21,83.84 -154.92,64.17 -161.97,43.4 -166.24,21.89 -167.68,0 -166.24,-21.89 -161.97,-43.4 -154.92,-64.17 -145.21,-83.84 -133.03,-102.08 -118.57,-118.57 -102.08,-133.03 -83.84,-145.21 -64.17,-154.92 -43.4,-161.97 -21.89,-166.24 0,-167.68 21.89,-166.24 43.4,-161.97 64.17,-154.92 83.84,-145.21 102.08,-133.03 118.57,-118.57 133.03,-102.08 145.21,-83.84 154.92,-64.17 161.97,-43.4 166.24,-21.89 167.68,0 166.24,21.89 161.97,43.4 154.92,64.17 145.21,83.84 133.03,102.08 118.57,118.57 102.08,133.03 83.84,145.21 64.17,154.92 43.4,161.97 21.89,166.24
Mechanical 12:
  text "1" at -68.9,-10 h25
  text "2" at 68.9,-10 h25
Mechanical 255:
  lines w3: -93.9,0 -43.9,0 ; -68.9,-25 -68.9,25
3D body: height 150, standoff 0, extent -167.68,-167.68 167.68,167.68

## CONN80-0_8MM-ERF8-DV [mil] "CONN80-0_8MM-ERF8-DV"
pads (82):
  rect 20x50 smd: 1(614.17,86.61) 2(614.17,-86.61) 3(582.68,86.61) 4(582.68,-86.61) 5(551.18,86.61) 6(551.18,-86.61) 7(519.69,86.61) 8(519.69,-86.61) 9(488.19,86.61) 10(488.19,-86.61) 11(456.69,86.61) 12(456.69,-86.61) 13(425.2,86.61) 14(425.2,-86.61) 15(393.7,86.61) 16(393.7,-86.61) 17(362.2,86.61) 18(362.2,-86.61) 19(330.71,86.61) 20(330.71,-86.61) 21(299.21,86.61) 22(299.21,-86.61) 23(267.72,86.61) 24(267.72,-86.61) 25(236.22,86.61) 26(236.22,-86.61) 27(204.72,86.61) 28(204.72,-86.61) 29(173.23,86.61) 30(173.23,-86.61) 31(141.73,86.61) 32(141.73,-86.61) 33(110.24,86.61) 34(110.24,-86.61) 35(78.74,86.61) 36(78.74,-86.61) 37(47.24,86.61) 38(47.24,-86.61) 39(15.75,86.61) 40(15.75,-86.61) 41(-15.75,86.61) 42(-15.75,-86.61) 43(-47.24,86.61) 44(-47.24,-86.61) 45(-78.74,86.61) 46(-78.74,-86.61) 47(-110.24,86.61) 48(-110.24,-86.61) 49(-141.73,86.61) 50(-141.73,-86.61) 51(-173.23,86.61) 52(-173.23,-86.61) 53(-204.72,86.61) 54(-204.72,-86.61) 55(-236.22,86.61) 56(-236.22,-86.61) 57(-267.72,86.61) 58(-267.72,-86.61) 59(-299.21,86.61) 60(-299.21,-86.61) 61(-330.71,86.61) 62(-330.71,-86.61) 63(-362.2,86.61) 64(-362.2,-86.61) 65(-393.7,86.61) 66(-393.7,-86.61) 67(-425.2,86.61) 68(-425.2,-86.61) 69(-456.69,86.61) 70(-456.69,-86.61) 71(-488.19,86.61) 72(-488.19,-86.61) 73(-519.69,86.61) 74(-519.69,-86.61) 75(-551.18,86.61) 76(-551.18,-86.61) 77(-582.68,86.61) 78(-582.68,-86.61) 79(-614.17,86.61) 80(-614.17,-86.61)
  round 60 hole 60 unplated: ""(-685.04,-59.06) ""(685.04,-59.06)
Top Overlay:
  lines w6: -645.67,-110.24 -748.03,-110.24 -748.03,110.24 -645.67,110.24 ; 645.67,110.24 688.98,110.24 748.03,51.18 748.03,-110.24 653.54,-110.24 ; 602.36,139.76 625.98,139.76 614.17,127.95 602.36,139.76
Mechanical 7:
  region: -748.03,-122.05 748.03,-122.05 748.03,122.05 -748.03,122.05
Mechanical 12:
  text "61" at -330.71,102.61 h20
  text "59" at -299.21,102.61 h20
  text "57" at -267.72,102.61 h20
  text "55" at -236.22,102.61 h20
  text "35" at 78.74,102.61 h20
  text "37" at 47.24,102.61 h20
  text "27" at 204.72,102.61 h20
  text "29" at 173.23,102.61 h20
  text "13" at 425.2,102.61 h20
  text "70" at -456.69,-70.61 h20
  text "14" at 425.2,-70.61 h20
  text "34" at 110.24,-70.61 h20
  text "33" at 110.24,102.61 h20
  text "64" at -362.2,-70.61 h20
  text "54" at -204.72,-70.61 h20
  text "48" at -110.24,-70.61 h20
  text "40" at 15.75,-70.61 h20
  text "26" at 236.22,-70.61 h20
  text "25" at 236.22,102.61 h20
  text "2" at 614.17,-78.61 h20
  text "1" at 614.17,94.61 h20
  text "53" at -204.72,102.61 h20
  text "63" at -362.2,102.61 h20
  text "47" at -110.24,102.61 h20
  text "39" at 15.75,102.61 h20
  text "76" at -551.18,-70.61 h20
  text "75" at -551.18,102.61 h20
  text "69" at -456.69,102.61 h20
  text "52" at -173.23,-70.61 h20
  text "22" at 299.21,-70.61 h20
  text "23" at 267.72,102.61 h20
  text "10" at 488.19,-70.61 h20
  text "11" at 456.69,102.61 h20
  text "60" at -299.21,-70.61 h20
  text "56" at -236.22,-70.61 h20
  text "58" at -267.72,-70.61 h20
  text "12" at 456.69,-70.61 h20
  text "24" at 267.72,-70.61 h20
  text "46" at -78.74,-70.61 h20
  text "62" at -330.71,-70.61 h20
  text "73" at -519.69,102.61 h20
  text "71" at -488.19,102.61 h20
  text "65" at -393.7,102.61 h20
  text "67" at -425.2,102.61 h20
  text "36" at 78.74,-70.61 h20
  text "30" at 173.23,-70.61 h20
  text "49" at -141.73,102.61 h20
  text "51" at -173.23,102.61 h20
  text "78" at -582.68,-70.61 h20
  text "80" at -614.17,-70.61 h20
  text "41" at -15.75,102.61 h20
  text "43" at -47.24,102.61 h20
  text "42" at -15.75,-70.61 h20
  text "44" at -47.24,-70.61 h20
  text "45" at -78.74,102.61 h20
  text "31" at 141.73,102.61 h20
  text "20" at 330.71,-70.61 h20
  text "16" at 393.7,-70.61 h20
  text "18" at 362.2,-70.61 h20
  text "15" at 393.7,102.61 h20
  text "17" at 362.2,102.61 h20
  text "19" at 330.71,102.61 h20
  text "21" at 299.21,102.61 h20
  text "8" at 519.69,-78.61 h20
  text "4" at 582.68,-78.61 h20
  text "6" at 551.18,-78.61 h20
  text "3" at 582.68,94.61 h20
  text "5" at 551.18,94.61 h20
  text "7" at 519.69,94.61 h20
  text "9" at 488.19,94.61 h20
  text "72" at -488.19,-70.61 h20
  text "50" at -141.73,-70.61 h20
  text "66" at -393.7,-70.61 h20
  text "68" at -425.2,-70.61 h20
  text "74" at -519.69,-70.61 h20
  text "38" at 47.24,-70.61 h20
  text "28" at 204.72,-70.61 h20
  text "79" at -614.17,102.61 h20
  text "77" at -582.68,102.61 h20
  text "32" at 141.73,-70.61 h20
Mechanical 13:
  lines w6: -748.03,-110.24 -748.03,110.24 688.98,110.24 748.03,51.18 748.03,-110.24 -748.03,-110.24
Multi-Layer keep-out:
  region: -685.04,-104.72 -673.22,-103.16 -662.21,-98.6 -652.75,-91.35 -645.5,-81.89 -640.94,-70.88 -639.38,-59.06 -640.94,-47.24 -645.5,-36.23 -652.75,-26.77 -662.21,-19.52 -673.22,-14.96 -685.04,-13.4 -696.86,-14.96 -707.87,-19.52 -717.33,-26.77 -724.58,-36.23 -729.14,-47.24 -730.7,-59.06 -729.14,-70.88 -724.58,-81.89 -717.33,-91.35 -707.87,-98.6 -696.86,-103.16
  region: 685.04,-104.72 696.86,-103.16 707.87,-98.6 717.33,-91.35 724.58,-81.89 729.14,-70.88 730.7,-59.06 729.14,-47.24 724.58,-36.23 717.33,-26.77 707.87,-19.52 696.86,-14.96 685.04,-13.4 673.22,-14.96 662.21,-19.52 652.75,-26.77 645.5,-36.23 640.94,-47.24 639.38,-59.06 640.94,-70.88 645.5,-81.89 652.75,-91.35 662.21,-98.6 673.22,-103.16
3D body: height 150, standoff 0, extent -748.03,-122.05 748.03,122.05

## HD16-2_54MM-S [mil] "HD16-2_54MM-S"
pads (16):
  rect 60x75 / inner round 60 / far side rect 60x75 hole 38: 1(-302,47)
  oval 60x75 / inner round 60 / far side oval 60x75 all layers, no hole: 2(-302,247) 3(-202,47) 4(-202,247) 5(-102,47) 6(-102,247) 7(-2,47) 8(-2,247) 9(98,47) 10(98,247) 11(198,47) 12(198,247) 13(298,47) 14(298,247) 15(398,47) 16(398,247)
Top Overlay:
  lines w6: -430,-238 430,-238 ; -430,0 -430,-313 430,-313 430,13 ; -430,1 -430,282 -430,312 430,312 430,278 ; 430,86 430,216
Mechanical 7:
  region: -430,-169.54 -430,-312 430,-312 430,-169.54 430,312 -430,312
Mechanical 12:
  text "12" at 198,239 h10
  text "11" at 198,39 h10
  text "10" at 98,239 h10
  text "9" at 98,43 h10
  text "2" at -302,243 h10
  text "1" at -302,43 h10
  text "4" at -202,243 h10
  text "3" at -202,43 h10
  text "14" at 298,239 h10
  text "13" at 298,39 h10
  text "16" at 398,239 h10
  text "15" at 398,39 h10
  text "8" at -2,243 h10
  text "7" at -2,43 h10
  text "6" at -102,243 h10
  text "5" at -102,43 h10
Mechanical 13:
  lines w6: -430,-238 430,-238 ; -430,-313 430,-313 430,312 -430,312 -430,-313
3D body: height 150, standoff 0, extent -430,-312 430,312

## HSC0402 [mil] "HSC0402"
pads (2):
  rect 20x20 smd: 1(-16,0) 2(16,0)
Top Overlay:
  lines w6: -10.15,17.5 -33.65,17.5 -33.65,-17.5 -10,-17.5 ; 10,-17.5 33.5,-17.5 33.5,17.5 10,17.5
Top Paste:
  dashed: 6,-10 26,-10 26,10 6,10 9,0
  dashed: -26,-10 -6,-10 -9,0 -6,10 -26,10
Mechanical 7:
  region: -21.65,-11.81 21.65,-11.81 21.65,11.81 -21.65,11.81
Mechanical 15:
  dashed: -21,-11 22,-11 22,12 -21,12
3D body: height 150, standoff 0, extent -21.65,-11.81 21.65,11.81

## HSED120-20F-QSH [mil] "HSED120-20F-QSH"
pads (130):
  rect 10x90 smd: 1(-679.13,-113) 2(-679.13,113) 3(-659.45,-113) 4(-659.45,113) 5(-639.76,-113) 6(-639.76,113) 7(-620.08,-113) 8(-620.08,113) 9(-600.39,-113) 10(-600.39,113) 11(-580.71,-113) 12(-580.71,113) 13(-561.02,-113) 14(-561.02,113) 15(-541.34,-113) 16(-541.34,113) 17(-521.65,-113) 18(-521.65,113) 19(-501.97,-113) 20(-501.97,113) 21(-482.28,-113) 22(-482.28,113) 23(-462.6,-113) 24(-462.6,113) 25(-442.91,-113) 26(-442.91,113) 27(-423.23,-113) 28(-423.23,113) 29(-403.54,-113) 30(-403.54,113) 31(-383.86,-113) 32(-383.86,113) 33(-364.17,-113) 34(-364.17,113) 35(-344.49,-113) 36(-344.49,113) 37(-324.8,-113) 38(-324.8,113) 39(-305.12,-113) 40(-305.12,113) 41(-285.43,-113) 42(-285.43,113) 43(-265.75,-113) 44(-265.75,113) 45(-246.06,-113) 46(-246.06,113) 47(-226.38,-113) 48(-226.38,113) 49(-206.69,-113) 50(-206.69,113) 51(-187.01,-113) 52(-187.01,113) 53(-167.32,-113) 54(-167.32,113) 55(-147.64,-113) 56(-147.64,113) 57(-127.95,-113) 58(-127.95,113) 59(-108.27,-113) 60(-108.27,113) 61(108.27,-113) 62(108.27,113) 63(127.95,-113) 64(127.95,113) 65(147.64,-113) 66(147.64,113) 67(167.32,-113) 68(167.32,113) 69(187.01,-113) 70(187.01,113) 71(206.69,-113) 72(206.69,113) 73(226.38,-113) 74(226.38,113) 75(246.06,-113) 76(246.06,113) 77(265.75,-113) 78(265.75,113) 79(285.43,-113) 80(285.43,113) 81(305.12,-113) 82(305.12,113) 83(324.8,-113) 84(324.8,113) 85(344.49,-113) 86(344.49,113) 87(364.17,-113) 88(364.17,113) 89(383.86,-113) 90(383.86,113) 91(403.54,-113) 92(403.54,113) 93(423.23,-113) 94(423.23,113) 95(442.91,-113) 96(442.91,113) 97(462.6,-113) 98(462.6,113) 99(482.28,-113) 100(482.28,113) 101(501.97,-113) 102(501.97,113) 103(521.65,-113) 104(521.65,113) 105(541.34,-113) 106(541.34,113) 107(561.02,-113) 108(561.02,113) 109(580.71,-113) 110(580.71,113) 111(600.39,-113) 112(600.39,113) 113(620.08,-113) 114(620.08,113) 115(639.76,-113) 116(639.76,113) 117(659.45,-113) 118(659.45,113) 119(679.13,-113) 120(679.13,113)
  rect 100x18 smd: 121(-711.02,0) 124(-75.98,0) 125(76.38,0) 128(711.42,0)
  rect 185x18 smd: 122(-518.5,0) 123(-268.5,0) 126(268.9,0) 127(518.9,0)
  round 40 / inner round 60 / far side round 40 hole 40 unplated: 129(-789.76,105.12) 130(790.16,105.12)
Top Layer keep-out:
  region: -683.07,20 -683.07,60 -103.15,60 -103.15,20
  region: 104.33,20 104.33,60 684.25,60 684.25,20
  region: 104.33,-60 104.33,-20 684.25,-20 684.25,-60
  region: -683.07,-60 -683.07,-20 -103.15,-20 -103.15,-60
Top Overlay:
  lines w8: -812.4,61.2 -812.4,-147.64 -696.9,-147.64 ; -751.9,147.69 -696.9,147.69 ; -88.9,-147.64 88.1,-147.64 ; -88.1,147.64 88.9,147.64 ; 696.9,-147.64 812.4,-147.64 812.4,61.2 ; 696.9,147.64 751.9,147.64
Mechanical 7:
  lines w1: -812.4,-147.64 -812.4,147.64 812.4,147.64 812.4,-147.64 -812.4,-147.64
  lines w8: -812.4,-147.64 -812.4,147.64 812.4,147.64 812.4,-147.64 -812.4,-147.64
Mechanical 15:
  lines w1: -812,-147 -812,148 813,148 813,-147 -812,-147

## HSED120-20M-QTH [mil] "HSED120-20M-QTH"
pads (130):
  rect 10x57 smd: 1(-679.18,121.5) 2(-679.18,-121.5) 3(-659.5,121.5) 4(-659.5,-121.5) 5(-639.81,121.5) 6(-639.81,-121.5) 7(-620.13,121.5) 8(-620.13,-121.5) 9(-600.44,121.5) 10(-600.44,-121.5) 11(-580.76,121.5) 12(-580.76,-121.5) 13(-561.07,121.5) 14(-561.07,-121.5) 15(-541.39,121.5) 16(-541.39,-121.5) 17(-521.7,121.5) 18(-521.7,-121.5) 19(-502.02,121.5) 20(-502.02,-121.5) 21(-482.33,121.5) 22(-482.33,-121.5) 23(-462.65,121.5) 24(-462.65,-121.5) 25(-442.96,121.5) 26(-442.96,-121.5) 27(-423.28,121.5) 28(-423.28,-121.5) 29(-403.59,121.5) 30(-403.59,-121.5) 31(-383.91,121.5) 32(-383.9,-121.5) 33(-364.22,121.5) 34(-364.22,-121.5) 35(-344.54,121.5) 36(-344.54,-121.5) 37(-324.85,121.5) 38(-324.85,-121.5) 39(-305.17,121.5) 40(-305.17,-121.5) 41(-285.48,121.5) 42(-285.48,-121.5) 43(-265.8,121.5) 44(-265.8,-121.5) 45(-246.11,121.5) 46(-246.11,-121.5) 47(-226.43,121.5) 48(-226.43,-121.5) 49(-206.74,121.5) 50(-206.74,-121.5) 51(-187.06,121.5) 52(-187.06,-121.5) 53(-167.37,121.5) 54(-167.37,-121.5) 55(-147.69,121.5) 56(-147.69,-121.5) 57(-128,121.5) 58(-128,-121.5) 59(-108.32,121.5) 60(-108.32,-121.5) 61(108.32,121.5) 62(108.32,-121.5) 63(128,121.5) 64(128,-121.5) 65(147.69,121.5) 66(147.69,-121.5) 67(167.37,121.5) 68(167.37,-121.5) 69(187.06,121.5) 70(187.06,-121.5) 71(206.74,121.5) 72(206.74,-121.5) 73(226.43,121.5) 74(226.43,-121.5) 75(246.11,121.5) 76(246.11,-121.5) 77(265.8,121.5) 78(265.8,-121.5) 79(285.48,121.5) 80(285.48,-121.5) 81(305.17,121.5) 82(305.17,-121.5) 83(324.85,121.5) 84(324.85,-121.5) 85(344.54,121.5) 86(344.54,-121.5) 87(364.22,121.5) 88(364.22,-121.5) 89(383.91,121.5) 90(383.91,-121.5) 91(403.59,121.5) 92(403.59,-121.5) 93(423.28,121.5) 94(423.28,-121.5) 95(442.96,121.5) 96(442.96,-121.5) 97(462.65,121.5) 98(462.65,-121.5) 99(482.33,121.5) 100(482.33,-121.5) 101(502.02,121.5) 102(502.02,-121.5) 103(521.7,121.5) 104(521.7,-121.5) 105(541.39,121.5) 106(541.39,-121.5) 107(561.07,121.5) 108(561.07,-121.5) 109(580.76,121.5) 110(580.76,-121.5) 111(600.44,121.5) 112(600.44,-121.5) 113(620.13,121.5) 114(620.13,-121.5) 115(639.81,121.5) 116(639.81,-121.5) 117(659.5,121.5) 118(659.5,-121.5) 119(679.18,121.5) 120(679.18,-121.5)
  rect 100x25 smd: 121(-726.47,0) 124(-61.47,0) 125(61.05,0) 128(726.05,0)
  rect 185x25 smd: 122(-518.95,0) 123(-268.95,0) 126(268.57,0) 127(518.57,0)
  round 40 hole 40 unplated: 129(-757.53,80) 130(757.53,80)
Top Layer keep-out:
  region: -681.25,25 -681.25,75 -106.25,75 -106.25,25
  region: 93.75,25 93.75,75 668.75,75 668.75,25
  region: 93.75,-75 93.75,-25 668.75,-25 668.75,-75
  region: -681.25,-75 -681.25,-25 -106.25,-25 -106.25,-75
Top Overlay:
  lines w8: -787.8,52 -787.8,-90 -742.95,-135 -701.95,-135 ; -785.95,135 -701.95,135 ; -86.25,-135 81.75,-135 ; -82.25,135 81.75,135 ; 702.05,-135 743.05,-135 787.8,-90 787.8,52 ; 702.05,135 786.05,135
Mechanical 8:
  region: -787.8,-135 -787.8,135 787.8,135 787.8,-135
  lines w8: -787.8,-135 -787.8,135 787.8,135 787.8,-135 -787.8,-135
Mechanical 17:
  dashed: -787,-135 -787,135 788,135 788,-135
3D body: height 150, standoff 0, extent -787.8,-135 787.8,135

## HSL1008 [mil] "HSL1008"
pads (2):
  rect 37x75 smd: 1(-40.5,0) 2(40.5,0)
Top Layer keep-out:
  region: -21.78,43.31 -21.78,-43.31 21.83,-43.31 21.83,43.31
Top Overlay:
  lines w6: -70,-50 -70,50 70,50 70,-50 -70,-50
  text "2.2UH" at 0,0 h0.01
Top Paste:
  dashed: -59,-35.5 -59,35.5 -29.18,35.5 -28.67,35.48 -28.16,35.41 -27.65,35.3 -27.16,35.14 -26.69,34.95 -26.23,34.71 -25.8,34.43 -25.39,34.12 -25.01,33.77 -24.66,33.39 -24.35,32.98 -24.07,32.55 -23.83,32.09 -23.64,31.62 -23.48,31.13 -23.37,30.62 -23.3,30.11 -23.28,29.6 -23.3,29.09 -23.37,28.58 -23.42,28.3 -29,0 -23.41,-28.36 -23.41,-28.38 -23.42,-28.38 -23.33,-28.89 -23.29,-29.4 -23.3,-29.92 -23.35,-30.43 -23.44,-30.94 -23.58,-31.43 -23.76,-31.91 -23.98,-32.38 -24.25,-32.82 -24.55,-33.24 -24.88,-33.63 -25.25,-33.99 -25.65,-34.32 -26.07,-34.61 -26.52,-34.86 -26.99,-35.07 -27.47,-35.24 -27.97,-35.37 -28.48,-35.46 -28.99,-35.5 -29.2,-35.5
  dashed: 59,35.5 59,-35.5 29.18,-35.5 28.67,-35.48 28.16,-35.41 27.65,-35.3 27.16,-35.14 26.69,-34.95 26.23,-34.71 25.8,-34.43 25.39,-34.12 25.01,-33.77 24.66,-33.39 24.35,-32.98 24.07,-32.55 23.83,-32.09 23.64,-31.62 23.48,-31.13 23.37,-30.62 23.3,-30.11 23.28,-29.6 23.3,-29.09 23.37,-28.58 23.42,-28.3 29,0 23.41,28.36 23.41,28.38 23.42,28.38 23.33,28.89 23.29,29.4 23.3,29.92 23.35,30.43 23.44,30.94 23.58,31.43 23.76,31.91 23.98,32.38 24.25,32.82 24.55,33.24 24.88,33.63 25.25,33.99 25.65,34.32 26.07,34.61 26.52,34.86 26.99,35.07 27.47,35.24 27.97,35.37 28.48,35.46 28.99,35.5 29.2,35.5
Mechanical 7:
  region: -53.15,43.31 -53.15,-43.31 53.15,-43.31 53.15,43.31
Mechanical 14:
  text "2" at 40.5,0 h0.01
  text "1" at -40.5,0 h0.01
Mechanical 255:
  lines w3: -25,0 25,0 -25,0 ; 0,-25 0,25 0,-25
3D body: height 150, standoff 0, extent -53.15,-43.31 53.15,43.31

## HSOD323A [mil] "HSOD323A"
pads (2):
  rect 44x20 smd: 1(54,0) 2(-54,0)
Top Overlay:
  lines w6: -35.43,-26.57 35.43,-26.57 35.47,-26.47 ; -35.43,26.57 35.43,26.57 ; 17.72,0 -7.7,-19.69 -7.7,19.69 18.12,0 ; 19.69,-26.57 19.69,26.57
Mechanical 7:
  region: 35.43,26.57 35.43,11.81 53.15,11.81 53.15,-11.81 35.43,-11.81 35.43,-26.57 -35.43,-26.57 -35.43,-11.81 -53.15,-11.81 -53.15,11.81 -35.43,11.81 -35.43,26.57
  lines w3.94: -35.43,-26.57 -35.43,-11.81 -53.15,-11.81 -53.15,11.81 -35.43,11.81 ; 35.43,-11.81 53.15,-11.81 53.15,11.81 35.43,11.81 35.43,26.57
  lines w6: -35.43,-26.57 35.43,-26.57 35.43,-11.81 ; -35.43,11.81 -35.43,26.57 35.43,26.57
Mechanical 12:
  text "1" at 54,-4 h10
  text "2" at -54,-4 h10
3D body: height 150, standoff 0, extent -53.15,-26.57 53.15,26.57

## HSOD523 [mil] "HSOD523"
pads (2):
  rect 14x16 smd: 1(30,0) 2(-30,0)
Top Overlay:
  lines w6: -48,-21.3 -36.2,-21.3 ; -42.1,-26.1 -42.1,-17.4
  lines w8: -26,-18 26,-18 ; -26,18 26,18 ; 9,-9.8 9,10
Mechanical 7:
  region: -26,18 26,18 26,7 35,7 35,-7 26,-7 26,-18 -26,-18 -26,-7 -35,-7 -35,7 -26,7
3D body: height 150, standoff 0, extent -35,-18 35,18

## HSR0402 [mil] "HSR0402"
pads (2):
  rect 20x20 smd: 1(-16,0) 2(16,0)
Top Overlay:
  lines w6: -33.5,-17.5 33.5,-17.5 33.5,17.5 -33.5,17.5 -33.5,-17.5
Top Paste:
  dashed: 6,-10 26,-10 26,10 6,10 9,0
  dashed: -26,-10 -6,-10 -9,0 -6,10 -26,10
Mechanical 7:
  region: -21.65,-11.81 21.65,-11.81 21.65,11.81 -21.65,11.81
Mechanical 15:
  dashed: -21,-11 22,-11 22,12 -21,12
3D body: height 150, standoff 0, extent -21.65,-11.81 21.65,11.81

## HSX2-0302 [mil] "HSX2-0302"
pads (2):
  rect 40x70 smd: 1(-49.21,0) 2(49.21,0)
Top Layer keep-out:
  region: 26.21,38 -26.21,38 -26.21,-38 26.21,-38
Top Overlay:
  lines w6: -78.99,-44 78.99,-44 78.99,44 -78.99,44 -78.99,-44
Mechanical 7:
  region: 62.99,29.53 -62.99,29.53 -62.99,-29.53 62.99,-29.53
Mechanical 14:
  text "2" at 49.21,0 h0.01
  text "1" at -49.21,0 h0.01
Mechanical 255:
  lines w3: -25,0 25,0 ; 0,-25 0,25
3D body: height 150, standoff 0, extent -62.99,-29.53 62.99,29.53